# Altium schematic symbol library missing_components.SchLib: 1 symbol
Pins are listed as number, name and electrical type; pins without a type are passive.

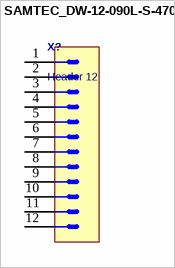
[diagram p0: symbol SAMTEC_DW-12-090L-S-470]

## SAMTEC_DW-12-090L-S-470
designator X?, comment Header 12
Manufacturer: SAMTEC; Manufacturer Part Number: DW-12-09-L-S-470; Familly: Header 12
footprint SAMTEC_DW-12-09-L-S-470 (12 Contacts, Pitch 2.54mm, Single Row Straight,Flexible Board Stacker (Stacker Height = 11,938mm))
pins: 1, 2, 3, 4, 5, 6, 7, 8, 9, 10, 11, 12